# EAGLE library part DRV8301DCAR (library skatemate)
Three Phase Pre-Driver with Dual Current Shunt Amplifiers and Buck Regulator,HTSSOP-56
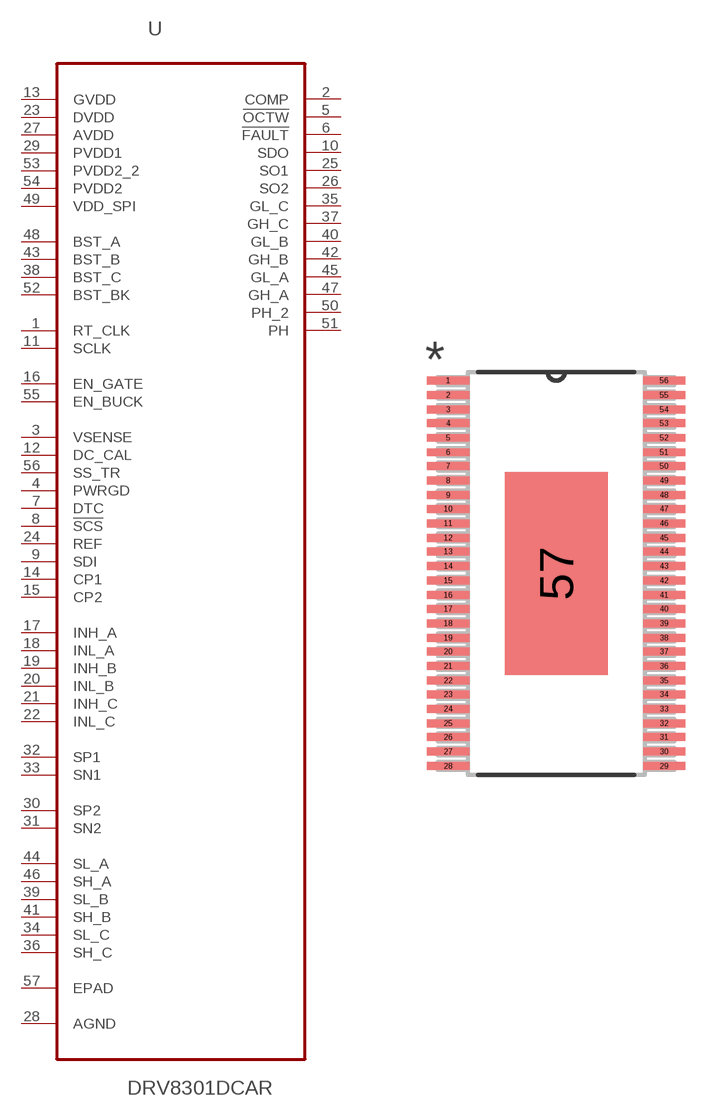
[diagram p0: symbol with the pads of SOP50P810X120-57N; footprint SOP50P810X120-57N]

Designator prefix U

## DRV8301DCAR (MPN: DRV8301DCAR; OC_FARNELL: 2045285; OC_NEWARK: 64T2938; PACKAGE: HTSSOP-56; SUPPLIER: TEXAS INSTRUMENTS)  [SOP50P810X120-57N]
1  RT_CLK  in
2  COMP  out
3  VSENSE  in
4  PWRGD  in
5  !OCTW  out
6  !FAULT  out
7  DTC  in
8  !SCS  in
9  SDI  in
10  SDO  out
11  SCLK  in
12  DC_CAL  in
13  GVDD  pwr
14  CP1  pwr
15  CP2  pwr
16  EN_GATE  in
17  INH_A  in
18  INL_A  in
19  INH_B  in
20  INL_B  in
21  INH_C  in
22  INL_C  in
23  DVDD  pwr
24  REF  in
25  SO1  out
26  SO2  out
27  AVDD  pwr
28  AGND  pas
29  PVDD1  pwr
30  SP2  in
31  SN2  in
32  SP1  in
33  SN1  in
34  SL_C  in
35  GL_C  out
36  SH_C  in
37  GH_C  out
38  BST_C  pwr
39  SL_B  in
40  GL_B  out
41  SH_B  in
42  GH_B  out
43  BST_B  pwr
44  SL_A  in
45  GL_A  out
46  SH_A  in
47  GH_A  out
48  BST_A  pwr
49  VDD_SPI  pwr
50  PH_2  out
51  PH  out
52  BST_BK  pwr
53  PVDD2_2  pwr
54  PVDD2  pwr
55  EN_BUCK  in
56  SS_TR  in
57  EPAD  pas

## Footprint SOP50P810X120-57N (pad centres in mm)
smd 1.473 x 0.279: 1 -3.785,6.756; 2 -3.785,6.248; 3 -3.785,5.74; 4 -3.785,5.258; 5 -3.785,4.75; 6 -3.785,4.242; 7 -3.785,3.759; 8 -3.785,3.251; 9 -3.785,2.743; 10 -3.785,2.261; 11 -3.785,1.753; 12 -3.785,1.245; 13 -3.785,0.762; 14 -3.785,0.254; 15 -3.785,-0.254; 16 -3.785,-0.762; 17 -3.785,-1.245; 18 -3.785,-1.753; 19 -3.785,-2.261; 20 -3.785,-2.743; 21 -3.785,-3.251; 22 -3.785,-3.759; 23 -3.785,-4.242; 24 -3.785,-4.75; 25 -3.785,-5.258; 26 -3.785,-5.74; 27 -3.785,-6.248; 28 -3.785,-6.756; 29 3.785,-6.756; 30 3.785,-6.248; 31 3.785,-5.74; 32 3.785,-5.258; 33 3.785,-4.75; 34 3.785,-4.242; 35 3.785,-3.759; 36 3.785,-3.251; 37 3.785,-2.743; 38 3.785,-2.261; 39 3.785,-1.753; 40 3.785,-1.245; 41 3.785,-0.762; 42 3.785,-0.254; 43 3.785,0.254; 44 3.785,0.762; 45 3.785,1.245; 46 3.785,1.753; 47 3.785,2.261; 48 3.785,2.743; 49 3.785,3.251; 50 3.785,3.759; 51 3.785,4.242; 52 3.785,4.75; 53 3.785,5.258; 54 3.785,5.74; 55 3.785,6.248; 56 3.785,6.756
smd 3.607 x 7.112: 57 0,0